# Altium schematic symbol library SCR.Schlib: 1 symbol
Pins are listed as number, name and electrical type; pins without a type are passive.

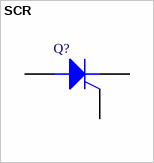
[diagram p0: symbol SCR]

## SCR
designator Q?
Silicon Controlled Rectifier
pins: 1 A, 2 G, 3 K